# EAGLE library part CX2147 (library balun)
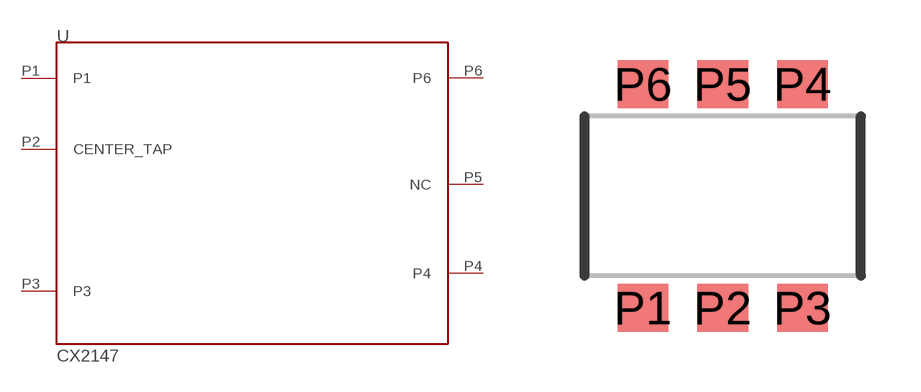
[diagram p0: symbol with the pads of 6-SMD; footprint 6-SMD]

Designator prefix -

## CX2147CX2147  [6-SMD]
P1  P1
P2  CENTER_TAP
P3  P3
P4  P4
P5  NC
P6  P6

## Footprint 6-SMD (pad centres in mm)
smd 1.27 x 1.206: P1 -1.994,-2.8; P2 0,-2.8; P3 1.994,-2.8; P4 1.994,2.8; P5 0,2.8; P6 -1.994,2.8